# EAGLE library part MT8816 (library ic)
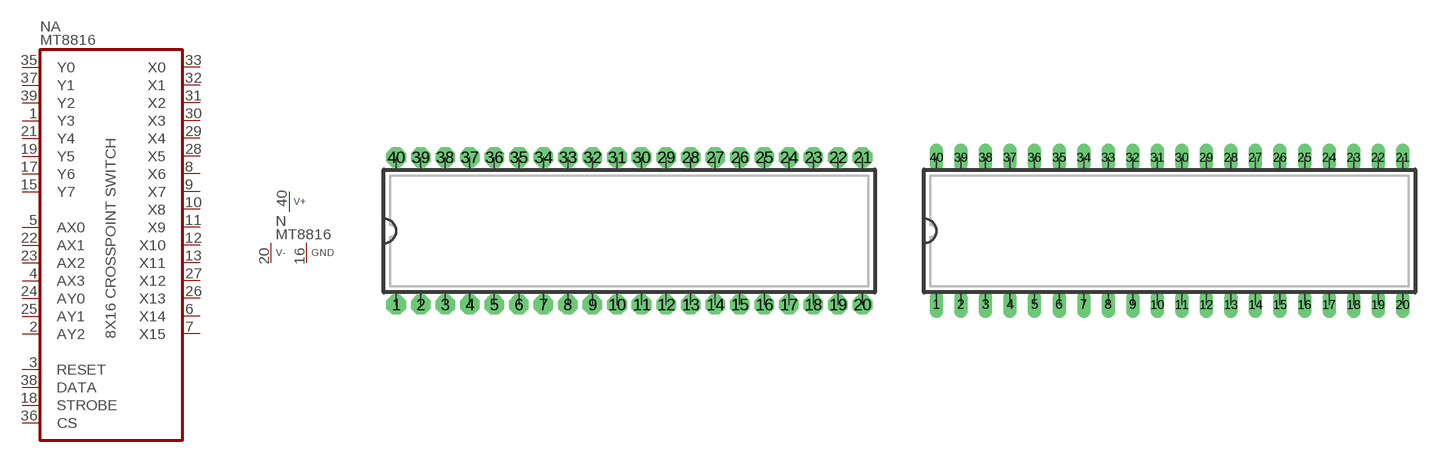
[diagram p32: symbol with the pads of DIP40WN; footprints DIP40WN, DIP40WL]

Designator prefix N; gates A=MT8816 P=V+-GND

## MT8816N  [DIP40WN]
1  A:Y3
2  A:AY2  in
3  A:RESET  in
4  A:AX3  in
5  A:AX0  in
6  A:X14
7  A:X15
8  A:X6
9  A:X7
10  A:X8
11  A:X9
12  A:X10
13  A:X11
15  A:Y7
16  P:GND  pwr
17  A:Y6
18  A:STROBE  in
19  A:Y5
20  P:V-  pwr
21  A:Y4
22  A:AX1  in
23  A:AX2  in
24  A:AY0  in
25  A:AY1  in
26  A:X13
27  A:X12
28  A:X5
29  A:X4
30  A:X3
31  A:X2
32  A:X1
33  A:X0
35  A:Y0
36  A:CS  in
37  A:Y1
38  A:DATA  in
39  A:Y2
40  P:V+  pwr

## MT8816  [DIP40WL]
Pads as for DIP40WN

## MT8816L  [DIP40WL]
Pads as for DIP40WN

## MT8816R  [DIP40WR]
Pads as for DIP40WN

## Footprint DIP40WN (pad centres in mm)
DIP-40 Standard IC package, 40 pins
drill 0.813 pad 2.032 octagon: 1 -24.13,-7.62; 2 -21.59,-7.62; 3 -19.05,-7.62; 4 -16.51,-7.62; 5 -13.97,-7.62; 6 -11.43,-7.62; 7 -8.89,-7.62; 8 -6.35,-7.62; 9 -3.81,-7.62; 10 -1.27,-7.62; 11 1.27,-7.62; 12 3.81,-7.62; 13 6.35,-7.62; 14 8.89,-7.62; 15 11.43,-7.62; 16 13.97,-7.62; 17 16.51,-7.62; 18 19.05,-7.62; 19 21.59,-7.62; 20 24.13,-7.62; 21 24.13,7.62; 22 21.59,7.62; 23 19.05,7.62; 24 16.51,7.62; 25 13.97,7.62; 26 11.43,7.62; 27 8.89,7.62; 28 6.35,7.62; 29 3.81,7.62; 30 1.27,7.62; 31 -1.27,7.62; 32 -3.81,7.62; 33 -6.35,7.62; 34 -8.89,7.62; 35 -11.43,7.62; 36 -13.97,7.62; 37 -16.51,7.62; 38 -19.05,7.62; 39 -21.59,7.62; 40 -24.13,7.62

## Footprint DIP40WL (pad centres in mm)
DIP-40, long pads Standard IC package, 40 pins
drill 0.813 pad 1.397 long: 1 -24.13,-7.62; 2 -21.59,-7.62; 3 -19.05,-7.62; 4 -16.51,-7.62; 5 -13.97,-7.62; 6 -11.43,-7.62; 7 -8.89,-7.62; 8 -6.35,-7.62; 9 -3.81,-7.62; 10 -1.27,-7.62; 11 1.27,-7.62; 12 3.81,-7.62; 13 6.35,-7.62; 14 8.89,-7.62; 15 11.43,-7.62; 16 13.97,-7.62; 17 16.51,-7.62; 18 19.05,-7.62; 19 21.59,-7.62; 20 24.13,-7.62; 21 24.13,7.62; 22 21.59,7.62; 23 19.05,7.62; 24 16.51,7.62; 25 13.97,7.62; 26 11.43,7.62; 27 8.89,7.62; 28 6.35,7.62; 29 3.81,7.62; 30 1.27,7.62; 31 -1.27,7.62; 32 -3.81,7.62; 33 -6.35,7.62; 34 -8.89,7.62; 35 -11.43,7.62; 36 -13.97,7.62; 37 -16.51,7.62; 38 -19.05,7.62; 39 -21.59,7.62; 40 -24.13,7.62

## Footprint DIP40WR (pad centres in mm)
DIP-40, reduced pads Standard IC package, 40 pins
drill 0.813 pad 1.397 square: 1 -24.13,-7.62; 2 -21.59,-7.62; 3 -19.05,-7.62; 4 -16.51,-7.62; 5 -13.97,-7.62; 6 -11.43,-7.62; 7 -8.89,-7.62; 8 -6.35,-7.62; 9 -3.81,-7.62; 10 -1.27,-7.62; 11 1.27,-7.62; 12 3.81,-7.62; 13 6.35,-7.62; 14 8.89,-7.62; 15 11.43,-7.62; 16 13.97,-7.62; 17 16.51,-7.62; 18 19.05,-7.62; 19 21.59,-7.62; 20 24.13,-7.62; 21 24.13,7.62; 22 21.59,7.62; 23 19.05,7.62; 24 16.51,7.62; 25 13.97,7.62; 26 11.43,7.62; 27 8.89,7.62; 28 6.35,7.62; 29 3.81,7.62; 30 1.27,7.62; 31 -1.27,7.62; 32 -3.81,7.62; 33 -6.35,7.62; 34 -8.89,7.62; 35 -11.43,7.62; 36 -13.97,7.62; 37 -16.51,7.62; 38 -19.05,7.62; 39 -21.59,7.62; 40 -24.13,7.62